# Altium footprint library Connector.PcbLib: 2 footprints
Each footprint in its own frame and in the unit in brackets; x right, y up, seen from the top. Pads: shape width x height; smd on the part's side, far side on the other; paste and mask are expansions set on the pad; w line width, h text height; cw(c..) or ccw(c..) is an arc to the next point about the centre after c.
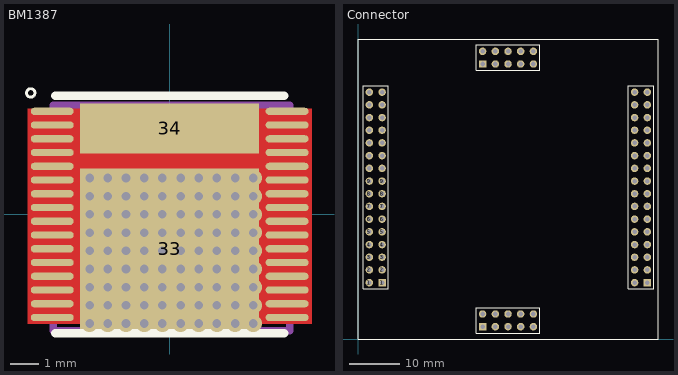
[diagram p0: the footprints below, top view; thin cyan lines are the x and y axes]

## BM1387 [mm]
pads (34):
  oval 1.5x0.25 smd: 1(-4.1,3.6) 2(-4.1,3.12) 3(-4.1,2.64) 4(-4.1,2.16) 5(-4.1,1.68) 6(-4.1,1.2) 7(-4.1,0.72) 8(-4.1,0.24) 9(-4.1,-0.24) 10(-4.1,-0.72) 11(-4.1,-1.2) 12(-4.1,-1.68) 13(-4.1,-2.16) 14(-4.1,-2.64) 15(-4.1,-3.12) 16(-4.1,-3.6) 17(4.1,-3.6) 18(4.1,-3.12) 19(4.1,-2.64) 20(4.1,-2.16) 21(4.1,-1.68) 22(4.1,-1.2) 23(4.1,-0.72) 24(4.1,-0.24) 25(4.1,0.24) 26(4.1,0.72) 27(4.1,1.2) 28(4.1,1.68) 29(4.1,2.16) 30(4.1,2.64) 31(4.1,3.12) 32(4.1,3.6)
  rect 6.25x5.6 smd: 33(0,-1.2)
  rect 6.25x1.75 smd: 34(0,3)
via -2.794,1.27 diameter 0.6 hole 0.3
via -2.159,1.27 diameter 0.6 hole 0.3
via -1.524,1.27 diameter 0.6 hole 0.3
via -0.889,1.27 diameter 0.6 hole 0.3
via -0.254,1.27 diameter 0.6 hole 0.3
via 0.381,1.27 diameter 0.6 hole 0.3
via 1.016,1.27 diameter 0.6 hole 0.3
via 1.651,1.27 diameter 0.6 hole 0.3
via 2.286,1.27 diameter 0.6 hole 0.3
via 2.921,1.27 diameter 0.6 hole 0.3
via -2.794,0.635 diameter 0.6 hole 0.3
via -2.159,0.635 diameter 0.6 hole 0.3
via -1.524,0.635 diameter 0.6 hole 0.3
via -0.889,0.635 diameter 0.6 hole 0.3
via -0.254,0.635 diameter 0.6 hole 0.3
via 0.381,0.635 diameter 0.6 hole 0.3
via 1.016,0.635 diameter 0.6 hole 0.3
via 1.651,0.635 diameter 0.6 hole 0.3
via 2.286,0.635 diameter 0.6 hole 0.3
via 2.921,0.635 diameter 0.6 hole 0.3
via -2.794,0 diameter 0.6 hole 0.3
via -2.159,0 diameter 0.6 hole 0.3
via -1.524,0 diameter 0.6 hole 0.3
via -0.889,0 diameter 0.6 hole 0.3
via -0.254,0 diameter 0.6 hole 0.3
via 0.381,0 diameter 0.6 hole 0.3
via 1.016,0 diameter 0.6 hole 0.3
via 1.651,0 diameter 0.6 hole 0.3
via 2.286,0 diameter 0.6 hole 0.3
via 2.921,0 diameter 0.6 hole 0.3
via -2.794,-0.635 diameter 0.6 hole 0.3
via -2.159,-0.635 diameter 0.6 hole 0.3
via -1.524,-0.635 diameter 0.6 hole 0.3
via -0.889,-0.635 diameter 0.6 hole 0.3
via -0.254,-0.635 diameter 0.6 hole 0.3
via 0.381,-0.635 diameter 0.6 hole 0.3
via 1.016,-0.635 diameter 0.6 hole 0.3
via 1.651,-0.635 diameter 0.6 hole 0.3
via 2.286,-0.635 diameter 0.6 hole 0.3
via 2.921,-0.635 diameter 0.6 hole 0.3
via -2.794,-1.27 diameter 0.6 hole 0.3
via -2.159,-1.27 diameter 0.6 hole 0.3
via -1.524,-1.27 diameter 0.6 hole 0.3
via -0.889,-1.27 diameter 0.6 hole 0.3
via -0.254,-1.27 diameter 0.6 hole 0.3
via 0.381,-1.27 diameter 0.6 hole 0.3
via 1.016,-1.27 diameter 0.6 hole 0.3
via 1.651,-1.27 diameter 0.6 hole 0.3
via 2.286,-1.27 diameter 0.6 hole 0.3
via 2.921,-1.27 diameter 0.6 hole 0.3
via -2.794,-1.905 diameter 0.6 hole 0.3
via -2.159,-1.905 diameter 0.6 hole 0.3
via -1.524,-1.905 diameter 0.6 hole 0.3
via -0.889,-1.905 diameter 0.6 hole 0.3
via -0.254,-1.905 diameter 0.6 hole 0.3
via 0.381,-1.905 diameter 0.6 hole 0.3
via 1.016,-1.905 diameter 0.6 hole 0.3
via 1.651,-1.905 diameter 0.6 hole 0.3
via 2.286,-1.905 diameter 0.6 hole 0.3
via 2.921,-1.905 diameter 0.6 hole 0.3
via -2.794,-2.54 diameter 0.6 hole 0.3
via -2.159,-2.54 diameter 0.6 hole 0.3
via -1.524,-2.54 diameter 0.6 hole 0.3
via -0.889,-2.54 diameter 0.6 hole 0.3
via -0.254,-2.54 diameter 0.6 hole 0.3
via 0.381,-2.54 diameter 0.6 hole 0.3
via 1.016,-2.54 diameter 0.6 hole 0.3
via 1.651,-2.54 diameter 0.6 hole 0.3
via 2.286,-2.54 diameter 0.6 hole 0.3
via 2.921,-2.54 diameter 0.6 hole 0.3
via -2.794,-3.175 diameter 0.6 hole 0.3
via -2.159,-3.175 diameter 0.6 hole 0.3
via -1.524,-3.175 diameter 0.6 hole 0.3
via -0.889,-3.175 diameter 0.6 hole 0.3
via -0.254,-3.175 diameter 0.6 hole 0.3
via 0.381,-3.175 diameter 0.6 hole 0.3
via 1.016,-3.175 diameter 0.6 hole 0.3
via 1.651,-3.175 diameter 0.6 hole 0.3
via 2.286,-3.175 diameter 0.6 hole 0.3
via 2.921,-3.175 diameter 0.6 hole 0.3
via -2.794,-3.81 diameter 0.6 hole 0.3
via -2.159,-3.81 diameter 0.6 hole 0.3
via -1.524,-3.81 diameter 0.6 hole 0.3
via -0.889,-3.81 diameter 0.6 hole 0.3
via -0.254,-3.81 diameter 0.6 hole 0.3
via 0.381,-3.81 diameter 0.6 hole 0.3
via 1.016,-3.81 diameter 0.6 hole 0.3
via 1.651,-3.81 diameter 0.6 hole 0.3
via 2.286,-3.81 diameter 0.6 hole 0.3
via 2.921,-3.81 diameter 0.6 hole 0.3
Top Layer:
  pour cut-out: 4.953,3.683 -4.953,3.683 -4.953,-3.81 4.953,-3.81
Top Overlay:
  circle w0.1: c-4.851,4.242 r0.148
  lines w0.3: -4,-4.15 4.001,-4.15 ; -4,4.15 4,4.15
Mechanical 13:
  circle w0.15: c-3.302,3.175 r0.284
  lines w0.254: -4.064,-4.064 4.191,-4.064 4.191,3.81 -4.064,3.81 -4.064,-4.064
Mechanical 15:
  lines w0.254: -0.635,0 0.635,0 ; 0,-0.635 0,0.635
3D body: height 0.2, standoff 0, extent -4.089,-4.115 4.064,4.14

## Connector [mm]
pads (84):
  round 1.5 hole 0.9: 1(2.27,11.27) 2(2.27,13.81) 2(4.81,13.81) 3(2.27,16.35) 3(4.81,16.35) 4(2.27,18.89) 4(4.81,18.89) 5(2.27,21.43) 5(4.81,21.43) 6(2.27,23.97) 6(4.81,23.97) 7(2.27,26.51) 7(4.81,26.51) 8(2.27,29.05) 8(4.81,29.05) 9(2.27,31.59) 9(4.81,31.59) 10(2.27,34.13) 10(4.81,34.13) 11(2.27,36.67) 11(4.81,36.67) 12(2.27,39.21) 12(4.81,39.21) 13(2.27,41.75) 13(4.81,41.75) 14(2.27,44.29) 14(4.81,44.29) 15(2.27,46.83) 15(4.81,46.83) 16(2.27,49.37) 16(4.81,49.37) 17(55.317,49.37) 17(57.857,49.37) 18(55.317,46.83) 18(57.857,46.83) 19(55.317,44.29) 19(57.857,44.29) 20(55.317,41.75) 20(57.857,41.75) 21(55.317,39.21) 21(57.857,39.21) 22(55.317,36.67) 22(57.857,36.67) 23(55.317,34.13) 23(57.857,34.13) 24(55.317,31.59) 24(57.857,31.59) 25(55.317,29.05) 25(57.857,29.05) 26(55.317,26.51) 26(57.857,26.51) 27(55.317,23.97) 27(57.857,23.97) 28(55.317,21.43) 28(57.857,21.43) 29(55.317,18.89) 29(57.857,18.89) 30(55.317,16.35) 30(57.857,16.35) 31(55.317,13.81) 31(57.857,13.81) 32(55.317,11.27) 33(24.92,57.54) 33(27.46,55) 33(27.46,57.54) 33(30,55) 33(30,57.54) 33(32.54,55) 33(32.54,57.54) 33(35.08,55) 33(35.08,57.54) 34(24.92,5) 34(27.46,2.46) 34(27.46,5) 34(30,2.46) 34(30,5) 34(32.54,2.46) 34(32.54,5) 34(35.08,2.46) 34(35.08,5)
  rect 1.5x1.5 hole 0.9: 1(4.81,11.27) 32(57.857,11.27) 33(24.92,55) 34(24.92,2.46)
Top Overlay:
  lines w0.2: 0,0 60,0 60,60 0,60 0,0 ; 1,10 1,50.64 6.08,50.64 6.08,10 1,10 ; 23.65,1.19 36.35,1.19 36.35,6.27 23.65,6.27 23.65,1.19 ; 23.65,53.73 36.35,53.73 36.35,58.81 23.65,58.81 23.65,53.73 ; 54.047,10 54.047,50.64 59.127,50.64 59.127,10 54.047,10